# Altium schematic symbol library MS-Connectors.SchLib: 15 symbols
Pins are listed as number, name and electrical type; pins without a type are passive.

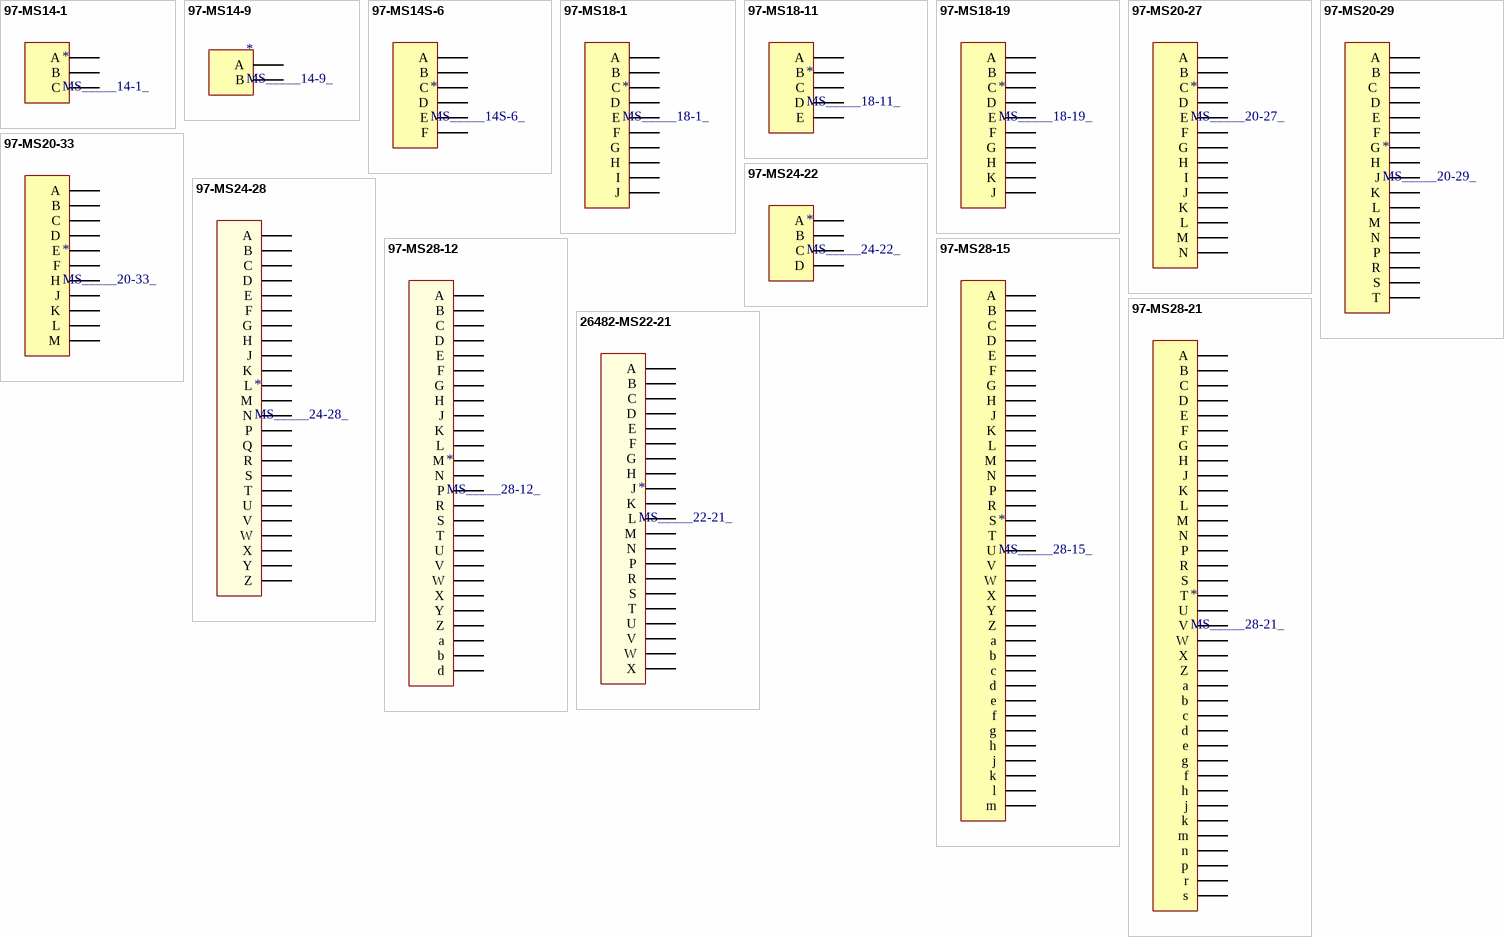
[diagram p0: symbols 97-MS14-1 to 26482-MS22-21]

## 97-MS14-1
designator *, comment MS_____14-1_
pins: 1 A, 2 B, 3 C

## 97-MS14-9
designator *, comment MS_____14-9_
pins: 1 A, 2 B

## 97-MS14S-6
designator *, comment MS_____14S-6_
pins: 1 A, 2 B, 3 C, 4 D, 5 E, 6 F

## 97-MS18-1
designator *, comment MS_____18-1_
pins: 1 A, 2 B, 3 C, 4 D, 5 E, 6 F, 7 G, 8 H, 9 I, 10 J

## 97-MS18-11
designator *, comment MS_____18-11_
pins: 1 A, 2 B, 3 C, 4 D, 5 E

## 97-MS18-19
designator *, comment MS_____18-19_
pins: 1 A, 2 B, 3 C, 4 D, 5 E, 6 F, 7 G, 8 H, 9 K, 10 J

## 97-MS20-27
designator *, comment MS_____20-27_
pins: 1 A, 2 B, 3 C, 4 D, 5 E, 6 F, 7 G, 8 H, 9 I, 10 J, 11 K, 12 L, 13 M, 14 N

## 97-MS20-29
designator *, comment MS_____20-29_
pins: 1 A, 2 B, 3 C , 4 D, 5 E, 6 F, 7 G, 8 H, 9 J, 10 K, 11 L, 12 M, 13 N, 14 P, 15 R, 16 S, 17 T

## 97-MS20-33
designator *, comment MS_____20-33_
pins: 1 A, 2 B, 3 C, 4 D, 5 E, 6 F, 7 H, 8 J, 9 K, 10 L, 11 M

## 97-MS24-22
designator *, comment MS_____24-22_
pins: 1 A, 2 B, 3 C, 4 D

## 97-MS24-28
designator *, comment MS_____24-28_
pins: 1 A, 2 B, 3 C, 4 D, 5 E, 6 F, 7 G, 8 H, 9 J, 10 K, 11 L, 12 M, 13 N, 14 P, 15 Q, 16 R, 17 S, 18 T, 19 U, 20 V, 21 W, 22 X, 23 Y, 24 Z

## 97-MS28-12
designator *, comment MS_____28-12_
pins: 1 A, 2 B, 3 C, 4 D, 5 E, 6 F, 7 G, 8 H, 9 J, 10 K, 11 L, 12 M, 13 N, 14 P, 15 R, 16 S, 17 T, 18 U, 19 V, 20 W, 21 X, 22 Y, 23 Z, 24 a, 25 b, 26 d

## 97-MS28-15
designator *, comment MS_____28-15_
pins: 1 A, 2 B, 3 C, 4 D, 5 E, 6 F, 7 G, 8 H, 9 J, 10 K, 11 L, 12 M, 13 N, 14 P, 15 R, 16 S, 17 T, 18 U, 19 V, 20 W, 21 X, 22 Y, 23 Z, 24 a, 25 b, 26 c, 27 d, 28 e, 29 f, 30 g, 31 h, 32 j, 33 k, 34 l, 35 m

## 97-MS28-21
designator *, comment MS_____28-21_
pins: 1 A, 2 B, 3 C, 4 D, 5 E, 6 F, 7 G, 8 H, 9 J, 10 K, 11 L, 12 M, 13 N, 14 P, 15 R, 16 S, 17 T, 18 U, 19 V, 20 W, 21 X, 22 Z, 23 a, 24 b, 25 c, 26 d, 27 e, 28 f, 29 g, 29 h, 30 j, 31 k, 32 m, 33 n, 35 p, 36 r, 37 s

## 26482-MS22-21
designator *, comment MS_____22-21_
pins: 1 A, 2 B, 3 C, 4 D, 5 E, 6 F, 7 G, 8 H, 9 J, 10 K, 11 L, 12 M, 13 N, 14 P, 15 R, 16 S, 17 T, 18 U, 19 V, 20 W, 21 X